# Altium footprint library NFC_PCBLIB.PcbLib: 3 footprints
Each footprint in its own frame and in the unit in brackets; x right, y up, seen from the top. Pads: shape width x height; smd on the part's side, far side on the other; paste and mask are expansions set on the pad; w line width, h text height; cw(c..) or ccw(c..) is an arc to the next point about the centre after c.
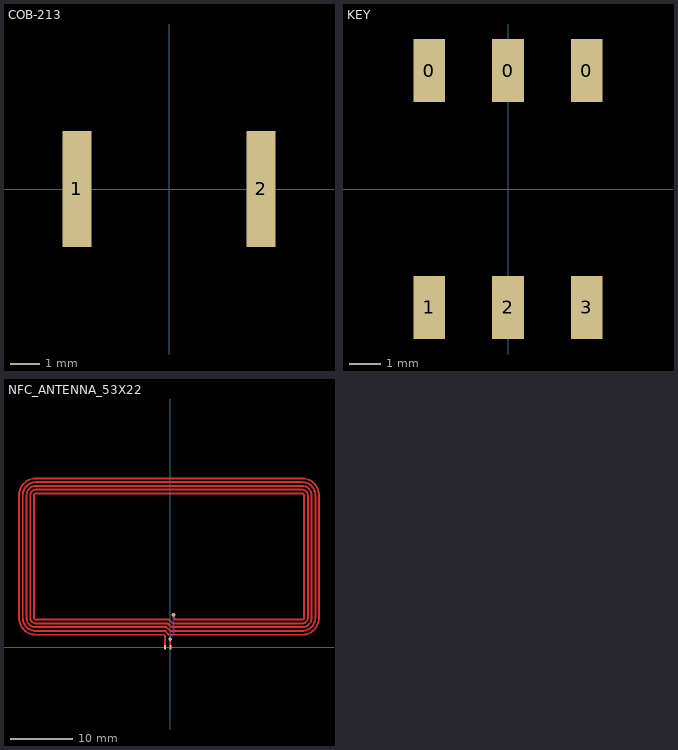
[diagram p0: the footprints below, top view; thin cyan lines are the x and y axes]

## COB-213 [mm]
pads (2):
  rect 1x4 smd: 1(-3.175,0) 2(3.175,0)
Top Solder:
  region: -2.525,2 2.525,2 2.525,-2 -2.525,-2

## KEY [mm]
pads (6):
  rect 1x2 smd: 0(-2.5,3.75) 0(0,3.75) 0(2.5,3.75) 1(-2.5,-3.75) 2(0,-3.75) 3(2.5,-3.75)
3D body: height 0, standoff -2.9, extent -4.5,-2.5 4.5,2.5

## NFC_ANTENNA_53X22 [mil]
pads (2):
  rect 12x30 smd: 1(-33.46,0) 2(0,0)
via 19.99,205 diameter 24 hole 12
via -0.01,50 diameter 24 hole 12
Top Layer:
  lines w10: 0,5 0,50
  lines w12: -33.5,5 -33.5,46.5 ; -33.5,41.5 -33.5,46.5 ; 18.68,195.89 18.68,189.39 34.57,173.5 830.5,173.5 ccw(c830.5,185.5) 842.5,185.5 842.5,957.33 ccw(c830.59,957.23) 830.5,969.14 -847.08,969.14 ccw(c-847.08,957.33) -858.89,957.33 -858.89,185.5 ccw(c-846.99,185.41) -847.08,173.5 -8.5,173.5 15.5,149.5 830.5,149.5 ccw(c830.5,185.5) 866.5,185.5 866.5,957.33 ccw(c830.78,957.04) 830.5,992.76 -847.08,992.76 ccw(c-847.08,957.33) -882.52,957.33 -882.51,185.5 ccw(c-846.8,185.22) -847.08,149.5 -16.37,149.5 7.5,126.5 830.5,126.5 ccw(c830.5,185.5) 889.5,185.5 889.5,957.33 ccw(c830.47,957.35) 830.5,1016.38 -847.08,1016.38 ccw(c-847.08,957.33) -906.14,957.33 -906.14,185.5 ccw(c-847.11,185.53) -847.08,126.5 -24.25,126.5 -0.5,102.5 830.5,102.5 ccw(c830.5,185.5) 913.5,185.5 913.5,957.33 ccw(c830.66,957.17) 830.5,1040 -847.08,1040.01 ccw(c-847.08,957.33) -929.76,957.33 -929.76,185.5 ccw(c-846.92,185.34) -847.08,102.5 -32.12,102.5 -8.5,78.5 830.5,78.5 ccw(c830,185) 936.5,185.5 936.5,957.33 ccw(c830.35,957.48) 830.5,1063.63 -847.08,1063.63 ccw(c-847.08,957.33) -953.38,957.33 -953.38,185.5 ccw(c-846.73,185.15) -847.08,78.5 -39.99,78.5 -33.5,72.5 -33.5,46.5
Bottom Layer:
  lines w10: 0,50 0,65 20,85 20,205